# EAGLE library part 557565-1 (library con-amp1)
AMP connector
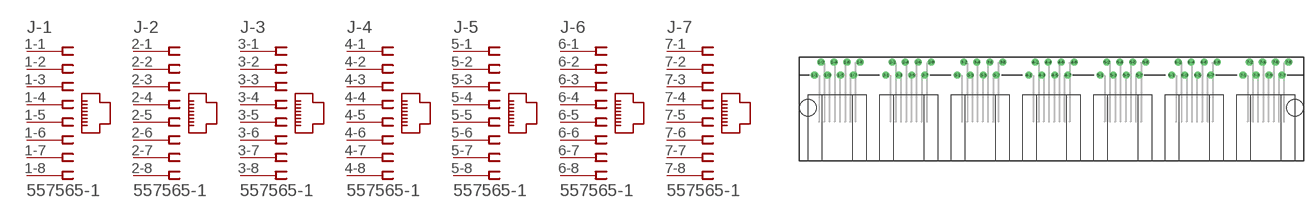
[diagram p64: symbol with the pads of 557565-1; footprint 557565-1]

Designator prefix J; gates -1=JACK8 -2=JACK8 -3=JACK8 -4=JACK8 -5=JACK8 -6=JACK8 -7=JACK8

## 557565-1  [557565-1]
1-1  -1:1  pas
1-2  -1:2  pas
1-3  -1:3  pas
1-4  -1:4  pas
1-5  -1:5  pas
1-6  -1:6  pas
1-7  -1:7  pas
1-8  -1:8  pas
2-1  -2:1  pas
2-2  -2:2  pas
2-3  -2:3  pas
2-4  -2:4  pas
2-5  -2:5  pas
2-6  -2:6  pas
2-7  -2:7  pas
2-8  -2:8  pas
3-1  -3:1  pas
3-2  -3:2  pas
3-3  -3:3  pas
3-4  -3:4  pas
3-5  -3:5  pas
3-6  -3:6  pas
3-7  -3:7  pas
3-8  -3:8  pas
4-1  -4:1  pas
4-2  -4:2  pas
4-3  -4:3  pas
4-4  -4:4  pas
4-5  -4:5  pas
4-6  -4:6  pas
4-7  -4:7  pas
4-8  -4:8  pas
5-1  -5:1  pas
5-2  -5:2  pas
5-3  -5:3  pas
5-4  -5:4  pas
5-5  -5:5  pas
5-6  -5:6  pas
5-7  -5:7  pas
5-8  -5:8  pas
6-1  -6:1  pas
6-2  -6:2  pas
6-3  -6:3  pas
6-4  -6:4  pas
6-5  -6:5  pas
6-6  -6:6  pas
6-7  -6:7  pas
6-8  -6:8  pas
7-1  -7:1  pas
7-2  -7:2  pas
7-3  -7:3  pas
7-4  -7:4  pas
7-5  -7:5  pas
7-6  -7:6  pas
7-7  -7:7  pas
7-8  -7:8  pas

## Footprint 557565-1 (pad centres in mm)
Modular Jack
drill 0.889 round: 1-1 -46.355,6.35; 1-2 -45.085,8.89; 1-3 -43.815,6.35; 1-4 -42.545,8.89; 1-5 -41.275,6.35; 1-6 -40.005,8.89; 1-7 -38.735,6.35; 1-8 -37.465,8.89; 2-1 -32.385,6.35; 2-2 -31.115,8.89; 2-3 -29.845,6.35; 2-4 -28.575,8.89; 2-5 -27.305,6.35; 2-6 -26.035,8.89; 2-7 -24.765,6.35; 2-8 -23.495,8.89; 3-1 -18.415,6.35; 3-2 -17.145,8.89; 3-3 -15.875,6.35; 3-4 -14.605,8.89; 3-5 -13.335,6.35; 3-6 -12.065,8.89; 3-7 -10.795,6.35; 3-8 -9.525,8.89; 4-1 -4.445,6.35; 4-2 -3.175,8.89; 4-3 -1.905,6.35; 4-4 -0.635,8.89; 4-5 0.635,6.35; 4-6 1.905,8.89; 4-7 3.175,6.35; 4-8 4.445,8.89; 5-1 9.525,6.35; 5-2 10.795,8.89; 5-3 12.065,6.35; 5-4 13.335,8.89; 5-5 14.605,6.35; 5-6 15.875,8.89; 5-7 17.145,6.35; 5-8 18.415,8.89; 6-1 23.495,6.35; 6-2 24.765,8.89; 6-3 26.035,6.35; 6-4 27.305,8.89; 6-5 28.575,6.35; 6-6 29.845,8.89; 6-7 31.115,6.35; 6-8 32.385,8.89; 7-1 37.465,6.35; 7-2 38.735,8.89; 7-3 40.005,6.35; 7-4 41.275,8.89; 7-5 42.545,6.35; 7-6 43.815,8.89; 7-7 45.085,6.35; 7-8 46.355,8.89
hole 3.251 at -47.625,0
hole 3.251 at 47.625,0